# EAGLE library part PINHD-1X14 (library pinhead-new)
PIN HEADER
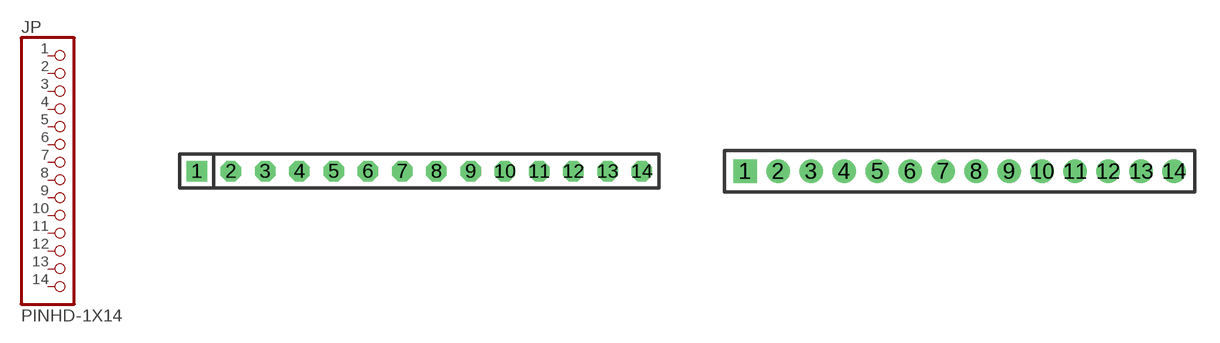
[diagram p8: symbol with the pads of 1X14; footprints 1X14, 1X14M]

Designator prefix JP

## PINHD-1X14  [1X14]
1  1  pas
2  2  pas
3  3  pas
4  4  pas
5  5  pas
6  6  pas
7  7  pas
8  8  pas
9  9  pas
10  10  pas
11  11  pas
12  12  pas
13  13  pas
14  14  pas

## PINHD-1X14M  [1X14M]
Pads as for 1X14

## Footprint 1X14 (pad centres in mm)
PIN HEADER - 0.1"
drill 1.016 square: 1 -16.51,0
drill 1.016 octagon: 2 -13.97,0; 3 -11.43,0; 4 -8.89,0; 5 -6.35,0; 6 -3.81,0; 7 -1.27,0; 8 1.27,0; 9 3.81,0; 10 6.35,0; 11 8.89,0; 12 11.43,0; 13 13.97,0; 14 16.51,0

## Footprint 1X14M (pad centres in mm)
PIN HEADER - 2MM"
drill 0.914 square: 1 -13,0
drill 0.914 round: 2 -11,0; 3 -9,0; 4 -7,0; 5 -5,0; 6 -3,0; 7 -1,0; 8 1,0; 9 3,0; 10 5,0; 11 7,0; 12 9,0; 13 11,0; 14 13,0